# Altium schematic symbol library custom.SchLib: 2 symbols
Pins are listed as number, name and electrical type; pins without a type are passive.

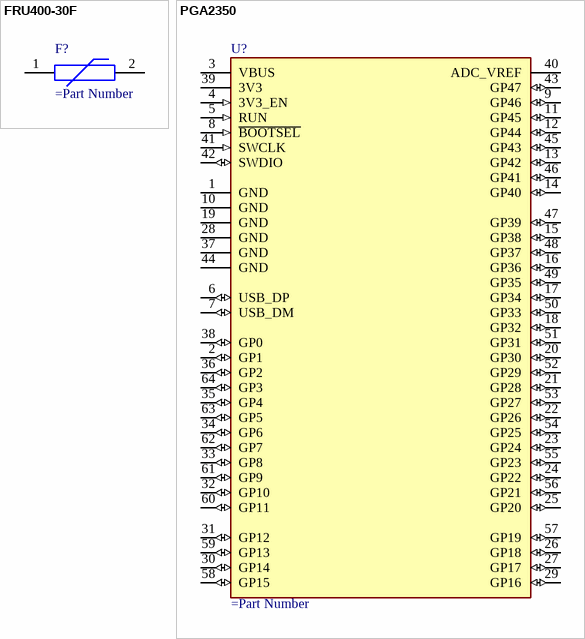
[diagram p0: symbols FRU400-30F to PGA2350]

## FRU400-30F
designator F?
pins: 1, 2

## PGA2350
designator U?
pins: 1 GND (power), 2 GP1 (io) "GPIO pin", 3 VBUS (power) "LDO input, 3V - 5.5V", 4 3V3_EN (in) "3.3V LDO enable", 5 RUN (in) "RP2350 system RUN", 6 USB_DP (io) "USB differential positive", 7 USB_DM (io) "USB differential negative", 8 ~{BOOTSEL} (in) "Boot select", 9 GP46 (io) "GPIO pin (NOT FT)", 10 GND (power), 11 GP45 (io) "GPIO pin (NOT FT)", 12 GP44 (io) "GPIO pin (NOT FT)", 13 GP42 (io) "GPIO pin (NOT FT)", 14 GP40 (io) "GPIO pin (NOT FT)", 15 GP38 (io) "GPIO pin", 16 GP36 (io) "GPIO pin", 17 GP34 (io) "GPIO pin", 18 GP32 (io) "GPIO pin", 19 GND (power), 20 GP30 (io) "GPIO pin", 21 GP28 (io) "GPIO pin", 22 GP26 (io) "GPIO pin", 23 GP24 (io) "GPIO pin", 24 GP22 (io) "GPIO pin", 25 GP20 (io) "GPIO pin", 26 GP18 (io) "GPIO pin", 27 GP17 (io) "GPIO pin", 28 GND (power), 29 GP16 (io) "GPIO pin", 30 GP14 (io) "GPIO pin", 31 GP12 (io) "GPIO pin", 32 GP10 (io) "GPIO pin", 33 GP8 (io) "GPIO pin", 34 GP6 (io) "GPIO pin", 35 GP4 (io) "GPIO pin", 36 GP2 (io) "GPIO pin", 37 GND (power), 38 GP0 (io) "GPIO pin", 39 3V3 (power) "3.3V LDO output", 40 ADC_VREF (power) "ADC reference voltage", 41 SWCLK (in) "ARM Serial Wire Debug clock", 42 SWDIO (io) "ARM Serial Wire Debug I/O", 43 GP47 (io) "GPIO pin (NOT FT)", 44 GND (power), 45 GP43 (io) "GPIO pin (NOT FT)", 46 GP41 (io) "GPIO pin (NOT FT)", 47 GP39 (io) "GPIO pin", 48 GP37 (io) "GPIO pin", 49 GP35 (io) "GPIO pin", 50 GP33 (io) "GPIO pin", 51 GP31 (io) "GPIO pin", 52 GP29 (io) "GPIO pin", 53 GP27 (io) "GPIO pin", 54 GP25 (io) "GPIO pin", 55 GP23 (io) "GPIO pin", 56 GP21 (io) "GPIO pin", 57 GP19 (io) "GPIO pin", 58 GP15 (io) "GPIO pin", 59 GP13 (io) "GPIO pin", 60 GP11 (io) "GPIO pin", 61 GP9 (io) "GPIO pin", 62 GP7 (io) "GPIO pin", 63 GP5 (io) "GPIO pin", 64 GP3 (io) "GPIO pin"